# EAGLE library part MPU6500 (library KwanSystems)
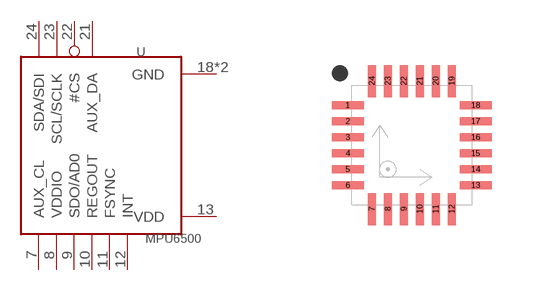
[diagram p39: symbol with the pads of QFN24; footprint QFN24]

Designator prefix -

## MPU6500  [QFN24]
7  AUX_CL
8  VDDIO
9  SDO/AD0  out
10  REGOUT
11  FSYNC
12  INT  out
13  VDD  pwr
18  GND  pwr
20  GND  pwr
21  AUX_DA
22  #CS
23  SCL/SCLK
24  SDA/SDI

## Footprint QFN24 (pad centres in mm)
smd 0.8 x 0.2: 1 -1.6,1; 2 -1.6,0.6; 3 -1.6,0.2; 4 -1.6,-0.2; 5 -1.6,-0.6; 6 -1.6,-1; 13 1.6,-1; 14 1.6,-0.6; 15 1.6,-0.2; 16 1.6,0.2; 17 1.6,0.6; 18 1.6,1
smd 0.2 x 0.8: 7 -1,-1.6; 8 -0.6,-1.6; 9 -0.2,-1.6; 10 0.2,-1.6; 11 0.6,-1.6; 12 1,-1.6; 19 1,1.6; 20 0.6,1.6; 21 0.2,1.6; 22 -0.2,1.6; 23 -0.6,1.6; 24 -1,1.6